# Altium schematic symbol library RES_4.7K_805.SchLib: 2 symbols
Pins are listed as number, name and electrical type; pins without a type are passive.

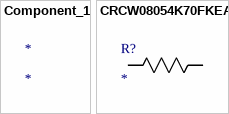
[diagram p0: symbols Component_1 to CRCW08054K70FKEAC]

## Component_1
designator *
footprint RES_CRCW_0805_VIS

## CRCW08054K70FKEAC
designator R?
No Description Available; Mfr_Name: Vishay
footprint RES_CRCW_0805_VIS
pins: 1, 2